# EAGLE library part LED-LIGHT-BAR (library LW_DUB)
LED-Leuchtfläche Kingbright® KB-2800SGW Distrelec: 254692
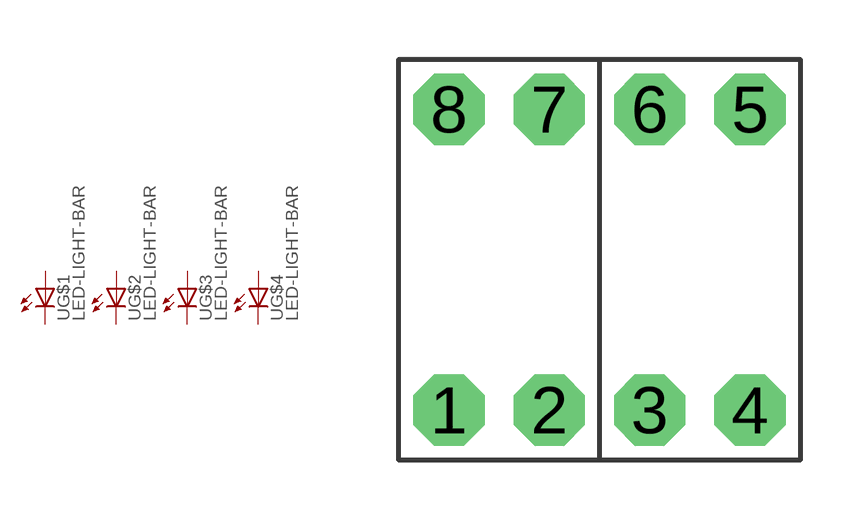
[diagram p0: symbol with the pads of LED-LIGHT-BAR; footprint LED-LIGHT-BAR]

Designator prefix -; gates G$1=LED G$2=LED G$3=LED G$4=LED

## LED-LIGHT-BAR  [LED-LIGHT-BAR]
1  G$1:C  pas
2  G$1:A  pas
3  G$2:A  pas
4  G$2:C  pas
5  G$3:C  pas
6  G$3:A  pas
7  G$4:A  pas
8  G$4:C  pas

## Footprint LED-LIGHT-BAR (pad centres in mm)
drill 0.8 pad 1.8 octagon: 1 -3.81,-3.81; 2 -1.27,-3.81; 3 1.27,-3.81; 4 3.81,-3.81; 5 3.81,3.81; 6 1.27,3.81; 7 -1.27,3.81; 8 -3.81,3.81